# EAGLE library part ABK-PRO-MINI (library Arduino-clone)
ABK Pro-Mini Arduino Clone
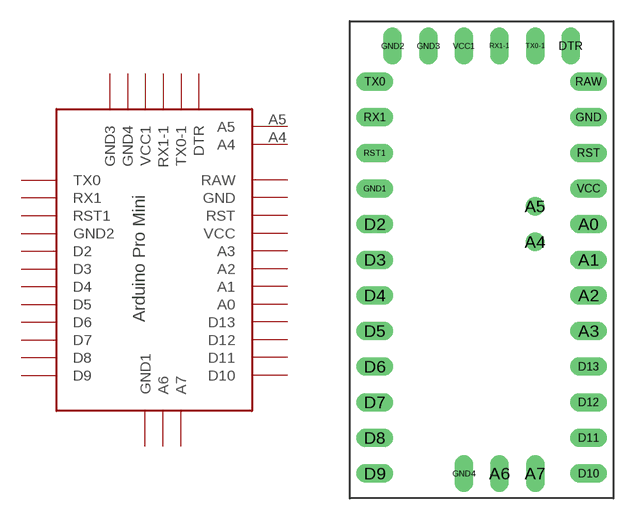
[diagram p1: symbol with the pads of ABK-PRO-MINI; footprint ABK-PRO-MINI]

Designator prefix -

## ABK-PRO-MINI  [ABK-PRO-MINI]
A0  A0
A1  A1
A2  A2
A3  A3
A4  A4
A5  A5
A6  A6
A7  A7
D2  D2
D3  D3
D4  D4
D5  D5
D6  D6
D7  D7
D8  D8
D9  D9
D10  D10
D11  D11
D12  D12
D13  D13
DTR  DTR
GND  GND
GND1  GND2
GND2  GND3
GND3  GND4
GND4  GND1
RAW  RAW
RST  RST
RST1  RST1
RX1  RX1
RX1-1  RX1-1
TX0  TX0
TX0-1  TX0-1
VCC  VCC
VCC1  VCC1

## Footprint ABK-PRO-MINI (pad centres in mm)
ABK-PRO-MINI
drill 0.8 long: A0 7.62,2.54; A1 7.62,0; A2 7.62,-2.54; A3 7.62,-5.08; A6 1.27,-15.24; A7 3.81,-15.24; D2 -7.62,2.54; D3 -7.62,0; D4 -7.62,-2.54; D5 -7.62,-5.08; D6 -7.62,-7.62; D7 -7.62,-10.16; D8 -7.62,-12.7; D9 -7.62,-15.24; D10 7.62,-15.24; D11 7.62,-12.7; D12 7.62,-10.16; D13 7.62,-7.62; DTR 6.35,15.24; GND 7.62,10.16; GND1 -7.62,5.08; GND2 -6.35,15.24; GND3 -3.81,15.24; GND4 -1.27,-15.24; RAW 7.62,12.7; RST 7.62,7.62; RST1 -7.62,7.62; RX1 -7.62,10.16; RX1-1 1.27,15.24; TX0 -7.62,12.7; TX0-1 3.81,15.24; VCC 7.62,5.08; VCC1 -1.27,15.24
drill 0.8: A4 3.81,1.27; A5 3.81,3.81